# Altium footprint library TCP-J2000-01.PcbLib: 16 footprints
Each footprint in its own frame and in the unit in brackets; x right, y up, seen from the top. Pads: shape width x height; smd on the part's side, far side on the other; paste and mask are expansions set on the pad; w line width, h text height; cw(c..) or ccw(c..) is an arc to the next point about the centre after c.
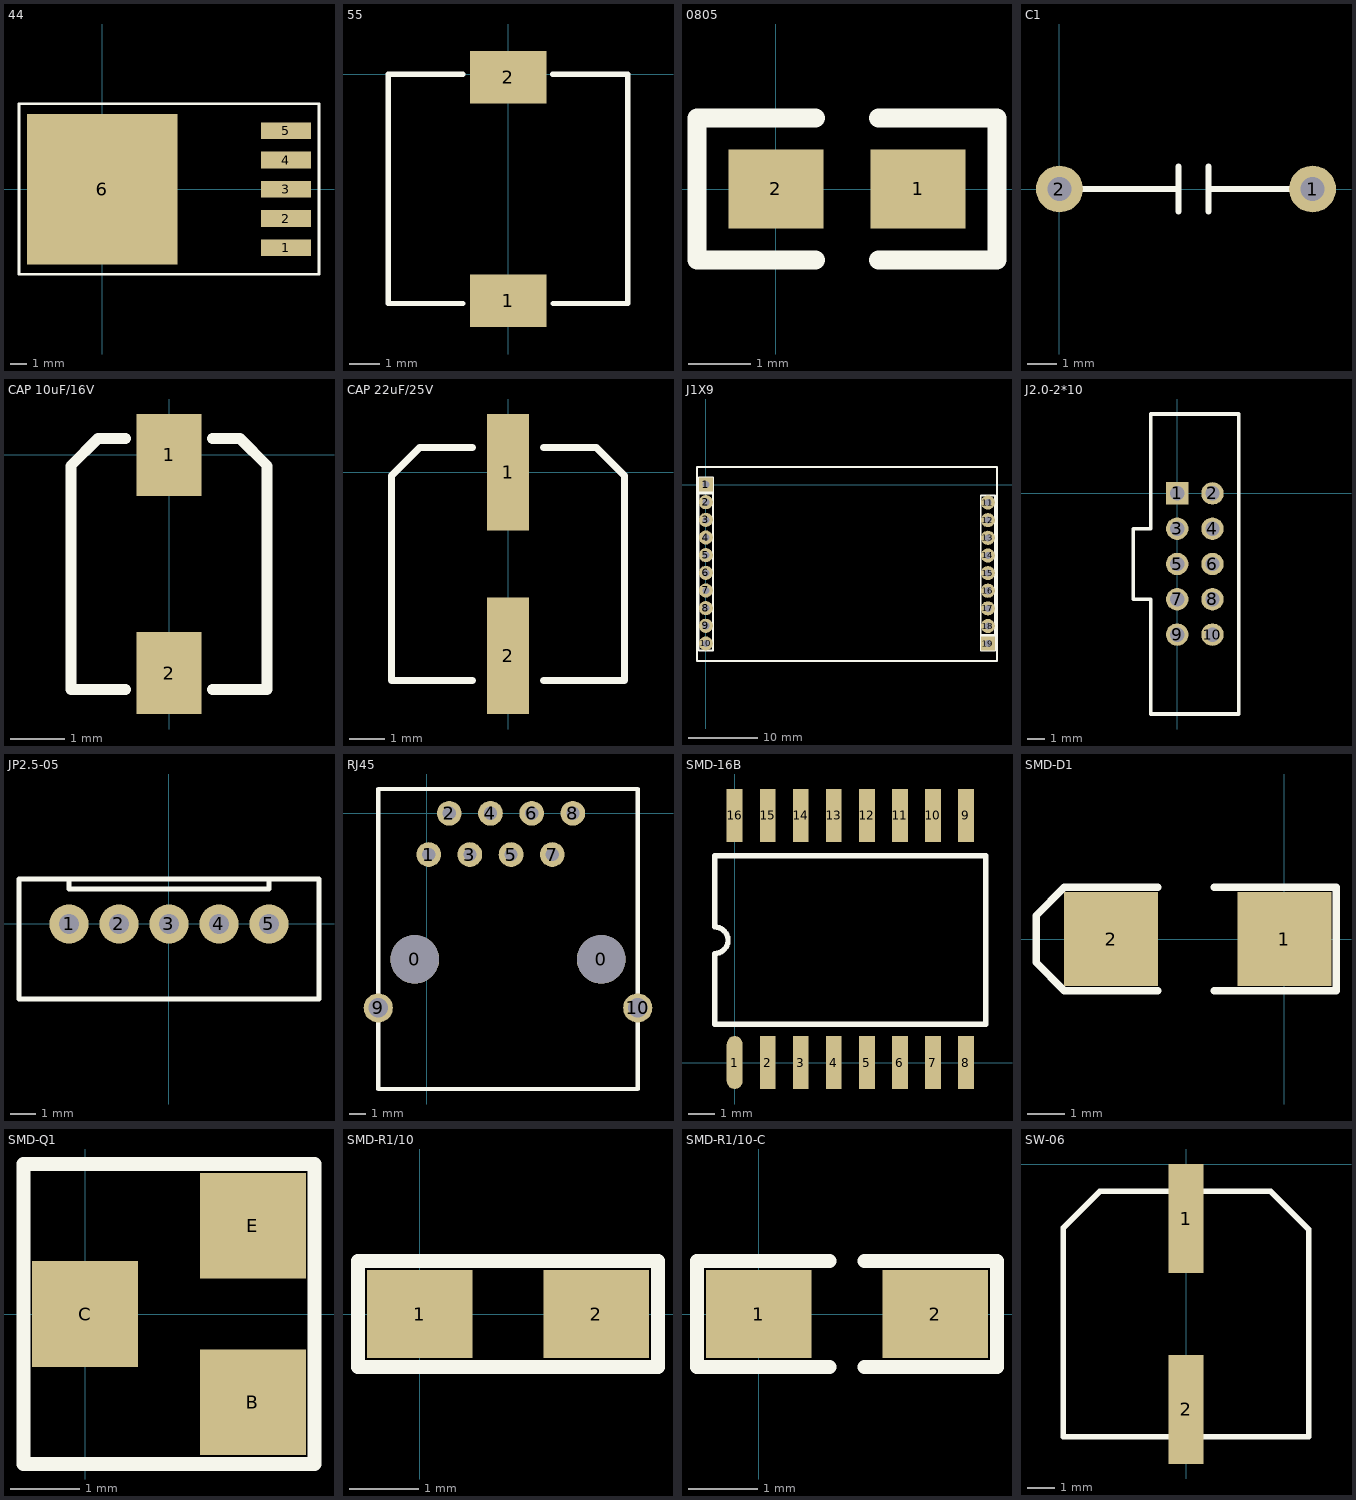
[diagram p0: the footprints below, top view; thin cyan lines are the x and y axes]

## 44 [mm]
pads (6):
  rect 3x1 smd: 1(11,-3.5) 2(11,-1.75) 3(11,0) 4(11,1.75) 5(11,3.5)
  rect 9x9 smd: 6(0,0)
Top Overlay:
  lines w0.178: -3.4,5.12 12.98,5.12 12.98,-5.08 -4.97,-5.08 -4.97,5.12 -3.11,5.12

## 55 [mm]
pads (2):
  rect 2.5x1.7 smd: 1(0,-7.4) 2(0,-0.1)
Top Overlay:
  lines w0.178: -1.49,-7.49 -3.91,-7.49 -3.91,0 -1.49,0 ; 1.46,0 3.9,0 3.9,-7.49 1.48,-7.49

## 0805 [mil]
pads (2):
  rect 60x50 smd: 1(90,0) 2(0,0)
Top Overlay:
  lines w12: 25,-45 -50,-45 -50,45 25,45 ; 65,-45 140,-45 140,45 65,45

## C1 [mil]
pads (2):
  round 62 hole 32: 1(334.65,0) 2(0,0)
Top Overlay:
  lines w8: 19.68,0 155.87,0 ; 157.48,-30 157.48,30 ; 196.85,-30 196.85,0 ; 196.85,30 196.85,0 ; 314.96,0 196.85,0

## CAP 10uF/16V [mm]
pads (2):
  rect 1.2x1.5 smd: 1(0,0) 2(0,-4)
Top Overlay:
  lines w0.2: -0.8,-4.3 -1.8,-4.3 -1.8,-0.2 -1.3,0.3 -0.8,0.3 ; 0.8,-4.3 1.8,-4.3 1.8,-0.2 1.3,0.3 0.8,0.3

## CAP 22uF/25V [mm]
pads (2):
  rect 1.2x3.3 smd: 1(0,0) 2(0,-5.2)
Top Overlay:
  lines w0.2: -1,-5.9 -3.3,-5.9 -3.3,-0.1 -2.5,0.7 -1,0.7 ; 1,-5.9 3.3,-5.9 3.3,-0.1 2.5,0.7 1,0.7

## J1X9 [mil]
pads (19):
  rect 80x80 hole 40: 1(0,0) 19(1598.42,-901.57)
  round 80 hole 40: 2(0,-100) 3(0,-200) 4(0,-300) 5(0,-400) 6(0,-500) 7(0,-600) 8(0,-700) 9(0,-800) 10(0,-900) 11(1598.42,-101.57) 12(1598.42,-201.57) 13(1598.42,-301.57) 14(1598.42,-401.57) 15(1598.42,-501.57) 16(1598.42,-601.57) 17(1598.42,-701.57) 18(1598.42,-801.57)
Top Overlay:
  rectangle: -35,-45 35,35
  region: 1633.42,-856.57 1563.42,-856.57 1563.42,-936.57 1633.42,-936.57
  lines w10: -40,-50 40,-50 ; 1558.42,-851.57 1638.42,-851.57 ; -50,-1000 -50,100 1650,100 1650,-1000 -50,-1000 ; -40,-940 -40,40 40,40 40,-940 -40,-940 ; 1558.42,-941.57 1638.42,-941.57 1638.42,-61.57 1558.42,-61.57 1558.42,-941.57

## J2.0-2*10 [mm]
pads (10):
  rect 1.27x1.27 hole 0.813: 1(0,0)
  round 1.27 hole 0.813: 2(2,0) 3(0,-2) 4(2,-2) 5(0,-4) 6(2,-4) 7(0,-6) 8(2,-6) 9(0,-8) 10(2,-8)
Top Overlay:
  lines w0.203: -2.5,-6 -1.5,-6 -1.5,-12.5 3.5,-12.5 3.5,4.5 -1.5,4.5 -1.5,-2 -2.5,-2 -2.5,-6

## JP2.5-05 [mil]
pads (5):
  round 62 hole 32: 1(-157.48,0) 2(-78.74,0) 3(0,0) 4(78.74,0) 5(157.48,0)
Top Overlay:
  lines w8: -157.48,70.87 -157.48,55.12 157.48,55.12 157.48,70.87 ; -236.22,-118.11 -236.22,70.87 236.22,70.87 236.22,-118.11 -236.22,-118.11

## RJ45 [mm]
pads (12):
  round 3 hole 3: 0(-0.75,-9) 0(10.75,-9)
  round 1.524 hole 0.813: 1(0.11,-2.54) 2(1.38,0) 3(2.65,-2.54) 4(3.92,0) 5(5.19,-2.54) 6(6.46,0) 7(7.73,-2.54) 8(9,0)
  round 1.8 hole 1.2: 9(-3,-12) 10(13,-12)
Top Overlay:
  lines w0.254: -3,-17 -3,1.5 13,1.5 13,-17 -3,-17

## SMD-16B [mil]
pads (16):
  oval 24x80 smd: 1(0,0)
  rect 24x80 smd: 2(50,0) 3(100,0) 4(150,0) 5(200,0) 6(250,0) 7(300,0) 8(350,0) 9(350,374.02) 10(300,374.02) 11(250,374.02) 12(200,374.02) 13(150,374.02) 14(100,374.02) 15(50,374.02) 16(0,374.02)
Top Overlay:
  lines w8: -30,58.19 -30,165.19 ccw(c-30,185.19) -30,205.19 -30,313.19 380,313.19 380,58.19 -30,58.19

## SMD-D1 [mil]
pads (2):
  rect 100x100 smd: 1(0,0) 2(-185,0)
Top Overlay:
  lines w8: -135,-55 -235,-55 -265,-25 -265,25 -235,55 -135,55 ; -75,-55 55,-55 55,55 -75,55

## SMD-Q1 [mil]
pads (3):
  rect 60x60 smd: B(95,-50) C(0,0) E(95,50)
Top Overlay:
  lines w8: -35,-85 -35,85 130,85 130,-85 -35,-85

## SMD-R1/10 [mil]
pads (2):
  rect 60x50 smd: 1(0,0) 2(100,0)
Top Overlay:
  lines w8: -35,-30 60,-30 135,-30 135,30 60,30 -35,30 -35,-30

## SMD-R1/10-C [mil]
pads (2):
  rect 60x50 smd: 1(0,0) 2(100,0)
Top Overlay:
  lines w8: 40,-30 -35,-30 -35,30 40,30 ; 60,-30 135,-30 135,30 60,30

## SW-06 [mm]
pads (2):
  rect 1.27x4 smd: 1(0,-2) 2(0,-9)
Top Overlay:
  lines w0.203: -4.5,-4.318 -4.5,-2.341 -3.159,-1 -1.651,-1 ; -4.5,-3.2 -4.5,-10 4.5,-10 4.5,-3.2 4.5,-2.396 ; -2.3,-1 2.3,-1 ; 1.016,-1 3.104,-1 ; 3.104,-1 4.5,-2.396 ; 3.104,-1 4.5,-2.396